# EAGLE library part ADG1433 (library analog-devices)
ANALOG iCMOS SWITCH
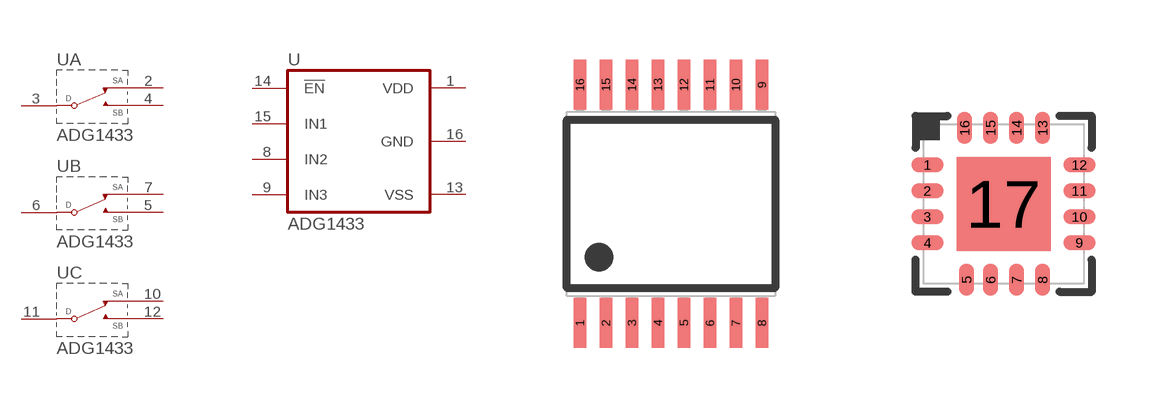
[diagram p76: symbol with the pads of TSSOP16; footprints TSSOP16, LFCSP16_VQ]

Designator prefix U; gates A=ADG1433-SW B=ADG1433-SW C=ADG1433-SW G$1=ADG1433

## ADG1433RU  [TSSOP16]
1  G$1:VDD  pwr
2  A:SA  pas
3  A:D  pas
4  A:SB  pas
5  B:SB  pas
6  B:D  pas
7  B:SA  pas
8  G$1:IN2  in
9  G$1:IN3  in
10  C:SA  pas
11  C:D  pas
12  C:SB  pas
13  G$1:VSS  pwr
14  G$1:!EN!  in
15  G$1:IN1  in
16  G$1:GND  pwr

## ADG1433CP  [LFCSP16_VQ]
1  A:D  pas
2  A:SB  pas
3  B:SB  pas
4  B:D  pas
5  B:SA  pas
6  G$1:IN2  in
7  G$1:IN3  in
8  C:SA  pas
9  C:D  pas
10  C:SB  pas
11  G$1:VSS  pwr
12  G$1:!EN!  in
13  G$1:IN1  in
14  G$1:GND  pwr
15  G$1:VDD  pwr
16  A:SA  pas
17  G$1:VSS  pwr

## Footprint TSSOP16 (pad centres in mm)
Thin Shrink Small Outline Plastic 16
smd 0.31 x 1.25: 1 -2.275,-2.98; 2 -1.625,-2.98; 3 -0.975,-2.98; 4 -0.325,-2.98; 5 0.325,-2.98; 6 0.975,-2.98; 7 1.625,-2.98; 8 2.275,-2.98; 9 2.275,2.98; 10 1.625,2.98; 11 0.975,2.98; 12 0.325,2.98; 13 -0.325,2.98; 14 -0.975,2.98; 15 -1.625,2.98; 16 -2.275,2.98

## Footprint LFCSP16_VQ (pad centres in mm)
16-Lead Lead Frame Chip Scale Package 4 mm × 4 mm Body, Very Thin Quad (CP-16-13)
smd 0.8 x 0.36: 1 -1.9,0.975; 2 -1.9,0.325; 3 -1.9,-0.325; 4 -1.9,-0.975; 9 1.9,-0.975; 10 1.9,-0.325; 11 1.9,0.325; 12 1.9,0.975
smd 0.36 x 0.8: 5 -0.925,-1.9; 6 -0.325,-1.9; 7 0.325,-1.9; 8 0.975,-1.9; 13 0.975,1.9; 14 0.325,1.9; 15 -0.325,1.9; 16 -0.975,1.9
smd 2.35 x 2.35: 17 0,0